# Altium footprint library J 接插件.PcbLib: 458 footprints (part 17 of 29)
Each footprint in its own frame and in the unit in brackets; x right, y up, seen from the top. Pads: shape width x height; smd on the part's side, far side on the other; paste and mask are expansions set on the pad; w line width, h text height; cw(c..) or ccw(c..) is an arc to the next point about the centre after c.
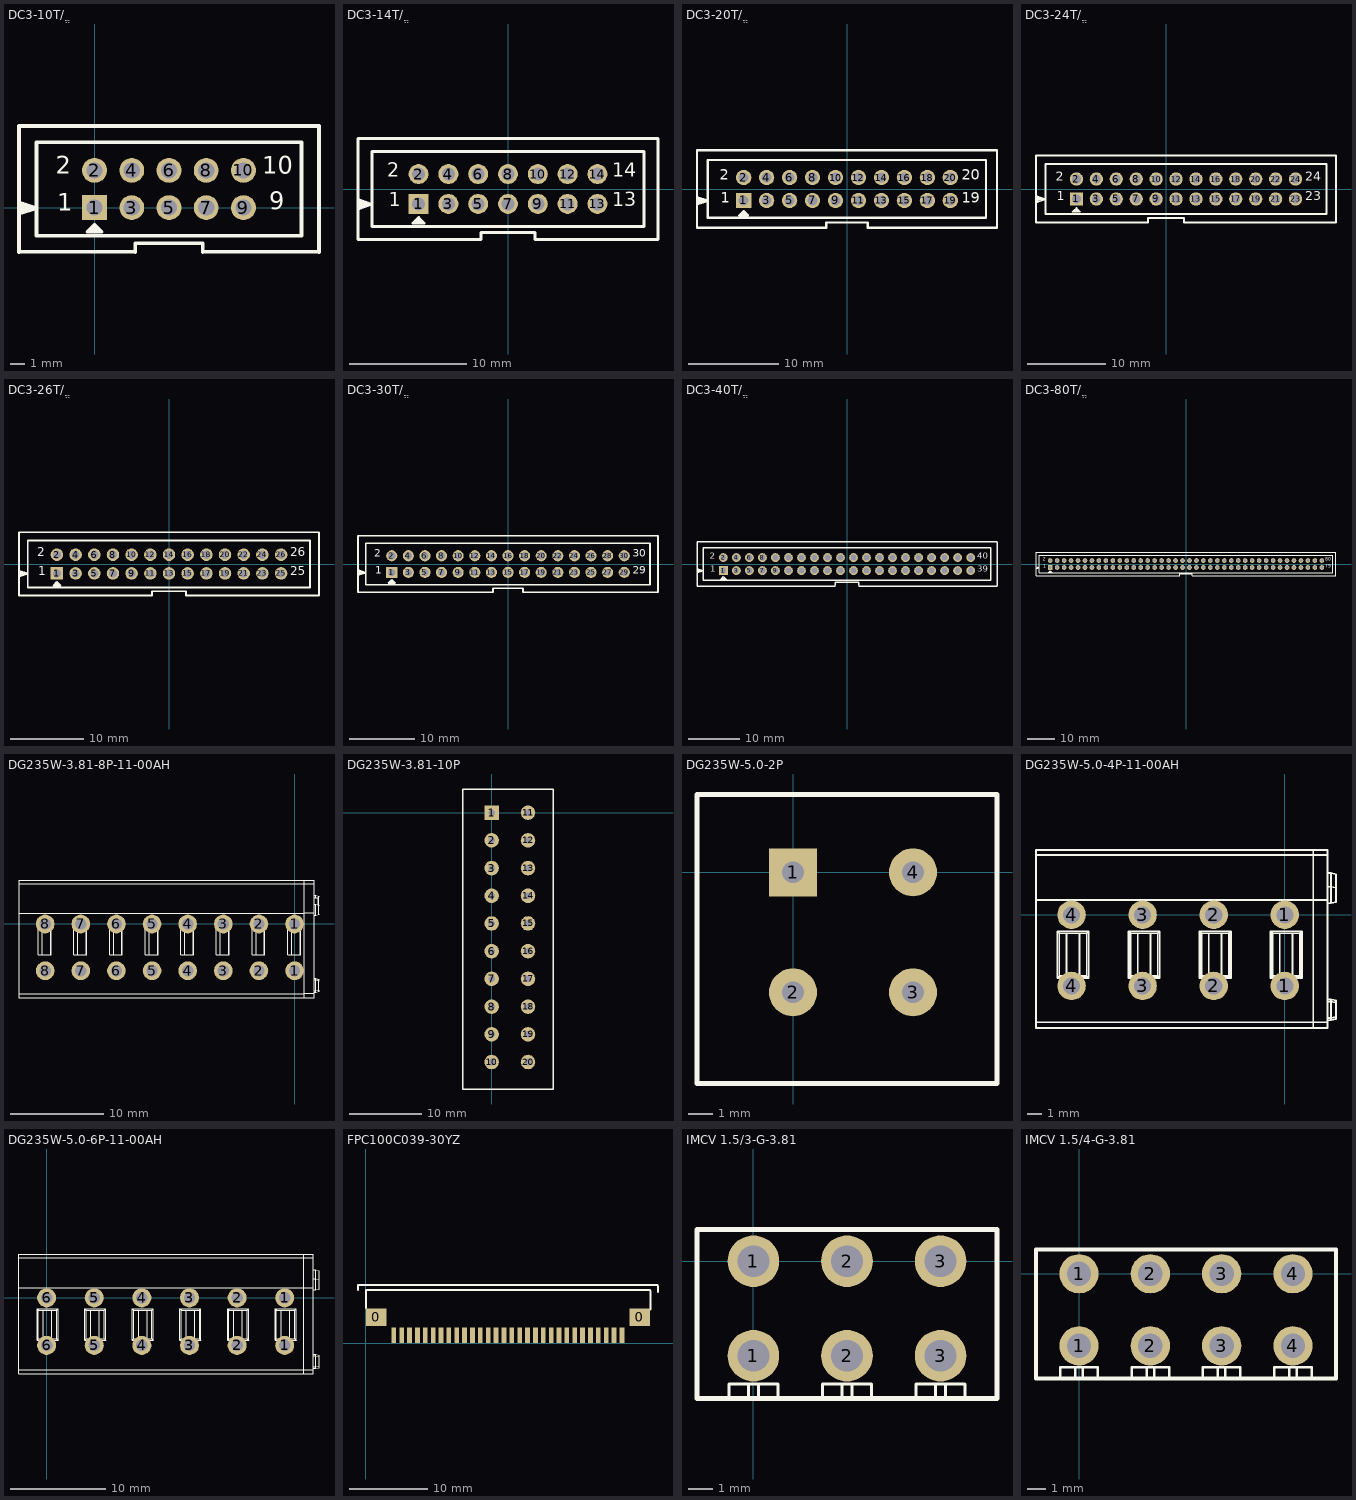
[diagram p16: the footprints below, top view; thin cyan lines are the x and y axes]

## DC3-10T/ֱ [mm] "双排排线无翼，10针"
height 10
pads (10):
  rect 1.7x1.7 hole 1.1: 1(0,0)
  round 1.7 hole 1.1: 2(0,2.54) 3(2.54,0) 4(2.54,2.54) 5(5.08,0) 6(5.08,2.54) 7(7.62,0) 8(7.62,2.54) 9(10.16,0) 10(10.16,2.54)
Top Overlay:
  lines w0.203: -0.381,-1.524 0.381,-1.524 ; -0.254,-1.397 0.254,-1.397 ; -0.508,-1.651 0.508,-1.651 0,-1.143 -0.508,-1.651
  lines w0.25: -5.16,-3.03 -5.16,5.57 15.32,5.57 15.32,-3.03 ; -5.16,-0.23 -4.56,-0.03 ; -5.16,-0.03 -3.96,-0.03 ; -5.16,0.17 -4.46,-0.03 ; -5.105,-3.023 2.769,-3.023 ; 2.78,-3.03 2.78,-2.43 7.38,-2.43 7.38,-3.03 ; 7.391,-3.023 15.265,-3.023 ; 14.097,-1.93 -3.96,-1.93 -3.96,4.47 14.097,4.47 ; 14.12,-1.93 14.12,4.47 ; -3.96,-0.03 -5.16,0.37 -5.16,-0.43 -3.96,-0.03
  text "10" at 11.43,1.905 h2.03
  text "9" at 11.938,-0.508 h2.03
  text "2" at -2.667,1.905 h2.03
  text "1" at -2.54,-0.635 h2.03

## DC3-14T/ֱ [mm] "双排排线无翼，14针"
height 10
pads (14):
  rect 1.7x1.7 hole 1.1: 1(-7.62,-1.27)
  round 1.7 hole 1.1: 2(-7.62,1.27) 3(-5.08,-1.27) 4(-5.08,1.27) 5(-2.54,-1.27) 6(-2.54,1.27) 7(0,-1.27) 8(0,1.27) 9(2.54,-1.27) 10(2.54,1.27) 11(5.08,-1.27) 12(5.08,1.27) 13(7.62,-1.27) 14(7.62,1.27)
Top Overlay:
  lines w0.203: -8.001,-2.794 -7.239,-2.794 ; -7.874,-2.667 -7.366,-2.667 ; -8.128,-2.921 -7.112,-2.921 -7.62,-2.413 -8.128,-2.921
  lines w0.25: -12.78,-4.3 -12.78,4.3 12.7,4.3 ; -12.78,-1.5 -12.18,-1.3 ; -12.78,-1.3 -11.58,-1.3 ; -12.78,-1.1 -12.08,-1.3 ; -12.725,-4.293 -2.286,-4.293 ; -2.3,-4.3 -2.3,-3.7 2.3,-3.7 2.3,-4.3 ; 2.286,-4.293 12.7,-4.293 ; 11.557,-3.2 -11.58,-3.2 -11.58,3.2 11.557,3.2 ; 11.58,-3.2 11.58,3.2 ; 12.78,-4.3 12.78,4.3 ; -11.58,-1.3 -12.78,-0.9 -12.78,-1.7 -11.58,-1.3
  text "13" at 8.89,-1.905 h2.03
  text "14" at 8.89,0.635 h2.03
  text "2" at -10.287,0.635 h2.03
  text "1" at -10.16,-1.905 h2.03

## DC3-20T/ֱ [mm] "双排排线无翼，20针"
height 10
pads (20):
  rect 1.7x1.7 hole 1.1: 1(-11.43,-1.27)
  round 1.7 hole 1.1: 2(-11.43,1.27) 3(-8.89,-1.27) 4(-8.89,1.27) 5(-6.35,-1.27) 6(-6.35,1.27) 7(-3.81,-1.27) 8(-3.81,1.27) 9(-1.27,-1.27) 10(-1.27,1.27) 11(1.27,-1.27) 12(1.27,1.27) 13(3.81,-1.27) 14(3.81,1.27) 15(6.35,-1.27) 16(6.35,1.27) 17(8.89,-1.27) 18(8.89,1.27) 19(11.43,-1.27) 20(11.43,1.27)
Top Overlay:
  lines w0.203: -11.811,-2.794 -11.049,-2.794 ; -11.684,-2.667 -11.176,-2.667 ; -11.938,-2.921 -11.43,-2.413 -10.922,-2.921 -11.938,-2.921
  lines w0.25: -16.59,-4.3 -16.59,4.3 16.51,4.3 ; -16.59,-1.5 -15.99,-1.3 ; -16.59,-1.3 -15.39,-1.3 ; -16.59,-1.1 -15.89,-1.3 ; -16.535,-4.293 -2.413,-4.293 ; -2.3,-4.3 -2.3,-3.7 2.3,-3.7 2.3,-4.3 ; 2.286,-4.293 16.51,-4.293 ; 16.59,-4.3 16.59,4.3 ; -15.39,-1.3 -16.59,-1.7 -16.59,-0.9 -15.39,-1.3 ; -15.39,-3.175 15.367,-3.175 15.367,3.2 -15.39,3.2 -15.39,-3.175
  text "19" at 12.7,-1.905 h2.03
  text "20" at 12.7,0.635 h2.03
  text "1" at -13.97,-1.905 h2.03
  text "2" at -14.097,0.635 h2.03

## DC3-24T/ֱ [mm] "双排排线无翼，24针"
height 10
pads (24):
  rect 1.7x1.7 hole 1.1: 1(-11.43,-1.27)
  round 1.7 hole 1.1: 2(-11.43,1.27) 3(-8.89,-1.27) 4(-8.89,1.27) 5(-6.35,-1.27) 6(-6.35,1.27) 7(-3.81,-1.27) 8(-3.81,1.27) 9(-1.27,-1.27) 10(-1.27,1.27) 11(1.27,-1.27) 12(1.27,1.27) 13(3.81,-1.27) 14(3.81,1.27) 15(6.35,-1.27) 16(6.35,1.27) 17(8.89,-1.27) 18(8.89,1.27) 19(11.43,-1.27) 20(11.43,1.27) 21(13.97,-1.27) 22(13.97,1.27) 23(16.51,-1.27) 24(16.51,1.27)
Top Overlay:
  lines w0.203: -11.811,-2.794 -11.049,-2.794 ; -11.684,-2.667 -11.176,-2.667 ; -11.938,-2.921 -10.922,-2.921 -11.43,-2.413 -11.938,-2.921
  lines w0.25: -16.59,-4.3 -16.59,4.3 21.59,4.3 ; -16.59,-1.5 -15.99,-1.3 ; -16.59,-1.3 -15.39,-1.3 ; -16.59,-1.1 -15.89,-1.3 ; -16.535,-4.293 -2.413,-4.293 ; -2.3,-4.3 -2.3,-3.7 2.3,-3.7 2.3,-4.3 ; 2.286,-4.293 21.59,-4.293 ; 21.67,-4.3 21.67,4.3 ; -15.39,-1.3 -16.59,-0.9 -16.59,-1.7 -15.39,-1.3 ; -15.39,-3.175 -15.39,3.2 20.447,3.2 20.447,-3.175 -15.39,-3.175
  text "2" at -14.097,0.635 h2.03
  text "1" at -13.97,-1.905 h2.03
  text "23" at 17.78,-1.905 h2.03
  text "24" at 17.78,0.635 h2.03

## DC3-26T/ֱ [mm] "双排排线无翼，26针"
height 10
pads (26):
  rect 1.7x1.7 hole 1.1: 1(-15.24,-1.27)
  round 1.7 hole 1.1: 2(-15.24,1.27) 3(-12.7,-1.27) 4(-12.7,1.27) 5(-10.16,-1.27) 6(-10.16,1.27) 7(-7.62,-1.27) 8(-7.62,1.27) 9(-5.08,-1.27) 10(-5.08,1.27) 11(-2.54,-1.27) 12(-2.54,1.27) 13(0,-1.27) 14(0,1.27) 15(2.54,-1.27) 16(2.54,1.27) 17(5.08,-1.27) 18(5.08,1.27) 19(7.62,-1.27) 20(7.62,1.27) 21(10.16,-1.27) 22(10.16,1.27) 23(12.7,-1.27) 24(12.7,1.27) 25(15.24,-1.27) 26(15.24,1.27)
Top Overlay:
  lines w0.203: -15.621,-2.794 -14.859,-2.794 ; -15.494,-2.667 -14.986,-2.667 ; -15.748,-2.921 -15.24,-2.413 -14.732,-2.921 -15.748,-2.921
  lines w0.25: -20.4,-4.3 -20.4,4.318 20.4,4.318 20.4,-4.3 ; -20.4,-1.5 -19.8,-1.3 ; -20.4,-1.3 -19.2,-1.3 ; -20.4,-1.1 -19.7,-1.3 ; -20.345,-4.293 -2.286,-4.293 ; -2.3,-4.3 -2.3,-3.7 2.3,-3.7 2.3,-4.3 ; 2.286,-4.293 20.32,-4.293 ; -19.2,-1.3 -20.4,-1.7 -20.4,-0.9 -19.2,-1.3 ; -19.2,-3.175 19.177,-3.175 19.177,3.2 -19.2,3.2 -19.2,-3.175
  text "1" at -17.78,-1.905 h2.03
  text "2" at -17.907,0.635 h2.03
  text "25" at 16.51,-1.905 h2.03
  text "26" at 16.51,0.635 h2.03

## DC3-30T/ֱ [mm] "双排排线无翼，30针"
height 10
pads (30):
  rect 1.7x1.7 hole 1.1: 1(-17.78,-1.27)
  round 1.7 hole 1.1: 2(-17.78,1.27) 3(-15.24,-1.27) 4(-15.24,1.27) 5(-12.7,-1.27) 6(-12.7,1.27) 7(-10.16,-1.27) 8(-10.16,1.27) 9(-7.62,-1.27) 10(-7.62,1.27) 11(-5.08,-1.27) 12(-5.08,1.27) 13(-2.54,-1.27) 14(-2.54,1.27) 15(0,-1.27) 16(0,1.27) 17(2.54,-1.27) 18(2.54,1.27) 19(5.08,-1.27) 20(5.08,1.27) 21(7.62,-1.27) 22(7.62,1.27) 23(10.16,-1.27) 24(10.16,1.27) 25(12.7,-1.27) 26(12.7,1.27) 27(15.24,-1.27) 28(15.24,1.27) 29(17.78,-1.27) 30(17.78,1.27)
Top Overlay:
  lines w0.203: -18.161,-2.794 -17.399,-2.794 ; -18.034,-2.667 -17.526,-2.667 ; -18.288,-2.921 -17.78,-2.413 -17.272,-2.921 -18.288,-2.921
  lines w0.25: -22.94,-4.3 -22.94,4.318 22.94,4.318 22.94,-4.3 ; -22.94,-1.5 -22.34,-1.3 ; -22.94,-1.3 -21.74,-1.3 ; -22.94,-1.1 -22.24,-1.3 ; -2.413,-4.293 -22.885,-4.293 -2.3,-4.293 ; -2.3,-4.3 -2.3,-3.7 2.3,-3.7 2.3,-4.3 ; 2.413,-4.293 22.86,-4.293 ; -21.74,-1.3 -22.94,-1.7 -22.94,-0.9 -21.74,-1.3 ; -21.74,-3.175 21.717,-3.175 21.717,3.2 -21.74,3.2 -21.74,-3.175
  text "30" at 19.05,0.635 h2.03
  text "29" at 19.05,-1.905 h2.03
  text "1" at -20.32,-1.905 h2.03
  text "2" at -20.447,0.635 h2.03

## DC3-40T/ֱ [mm] "双排排线无翼，40针"
height 10
pads (40):
  rect 1.7x1.7 hole 1.1: 1(-24.13,-1.27)
  round 1.7 hole 1.1: 2(-24.13,1.27) 3(-21.59,-1.27) 4(-21.59,1.27) 5(-19.05,-1.27) 6(-19.05,1.27) 7(-16.51,-1.27) 8(-16.51,1.27) 9(-13.97,-1.27) 10(-13.97,1.27) 11(-11.43,-1.27) 12(-11.43,1.27) 13(-8.89,-1.27) 14(-8.89,1.27) 15(-6.35,-1.27) 16(-6.35,1.27) 17(-3.81,-1.27) 18(-3.81,1.27) 19(-1.27,-1.27) 20(-1.27,1.27) 21(1.27,-1.27) 22(1.27,1.27) 23(3.81,-1.27) 24(3.81,1.27) 25(6.35,-1.27) 26(6.35,1.27) 27(8.89,-1.27) 28(8.89,1.27) 29(11.43,-1.27) 30(11.43,1.27) 31(13.97,-1.27) 32(13.97,1.27) 33(16.51,-1.27) 34(16.51,1.27) 35(19.05,-1.27) 36(19.05,1.27) 37(21.59,-1.27) 38(21.59,1.27) 39(24.13,-1.27) 40(24.13,1.27)
Top Overlay:
  lines w0.203: -24.511,-2.794 -23.749,-2.794 ; -24.384,-2.667 -23.876,-2.667 ; -24.638,-2.921 -24.13,-2.413 -23.622,-2.921 -24.638,-2.921
  lines w0.25: -29.29,-4.3 -29.29,4.318 29.21,4.318 ; -29.29,-1.5 -28.69,-1.3 ; -29.29,-1.3 -28.09,-1.3 ; -29.29,-1.1 -28.59,-1.3 ; -29.235,-4.293 -2.286,-4.293 ; -2.3,-4.173 -2.3,-3.573 2.3,-3.573 2.3,-4.173 ; 2.286,-4.293 29.21,-4.293 ; 29.29,-4.3 29.29,4.318 ; -28.09,-1.3 -29.29,-1.7 -29.29,-0.9 -28.09,-1.3 ; -28.09,-3.175 28.067,-3.175 28.067,3.2 -28.09,3.2 -28.09,-3.175
  text "1" at -26.67,-1.905 h2.03
  text "2" at -26.797,0.635 h2.03
  text "39" at 25.4,-1.905 h2.03
  text "40" at 25.4,0.635 h2.03

## DC3-80T/ֱ [mm] "双排排线无翼，80针"
height 10
pads (80):
  rect 1.7x1.7 hole 1.1: 1(-49.53,-1.27)
  round 1.7 hole 1.1: 2(-49.53,1.27) 3(-46.99,-1.27) 4(-46.99,1.27) 5(-44.45,-1.27) 6(-44.45,1.27) 7(-41.91,-1.27) 8(-41.91,1.27) 9(-39.37,-1.27) 10(-39.37,1.27) 11(-36.83,-1.27) 12(-36.83,1.27) 13(-34.29,-1.27) 14(-34.29,1.27) 15(-31.75,-1.27) 16(-31.75,1.27) 17(-29.21,-1.27) 18(-29.21,1.27) 19(-26.67,-1.27) 20(-26.67,1.27) 21(-24.13,-1.27) 22(-24.13,1.27) 23(-21.59,-1.27) 24(-21.59,1.27) 25(-19.05,-1.27) 26(-19.05,1.27) 27(-16.51,-1.27) 28(-16.51,1.27) 29(-13.97,-1.27) 30(-13.97,1.27) 31(-11.43,-1.27) 32(-11.43,1.27) 33(-8.89,-1.27) 34(-8.89,1.27) 34(3.81,1.27) 35(-6.35,-1.27) 36(-6.35,1.27) 37(-3.81,-1.27) 38(-3.81,1.27) 39(-1.27,-1.27) 40(-1.27,1.27) 41(1.27,-1.27) 42(1.27,1.27) 43(3.81,-1.27) 45(6.35,-1.27) 46(6.35,1.27) 47(8.89,-1.27) 48(8.89,1.27) 49(11.43,-1.27) 50(11.43,1.27) 51(13.97,-1.27) 52(13.97,1.27) 53(16.51,-1.27) 54(16.51,1.27) 55(19.05,-1.27) 56(19.05,1.27) 57(21.59,-1.27) 58(21.59,1.27) 59(24.13,-1.27) 60(24.13,1.27) 61(26.67,-1.27) 62(26.67,1.27) 63(29.21,-1.27) 64(29.21,1.27) 65(31.75,-1.27) 66(31.75,1.27) 67(34.29,-1.27) 68(34.29,1.27) 69(36.83,-1.27) 70(36.83,1.27) 71(39.37,-1.27) 72(39.37,1.27) 73(41.91,-1.27) 74(41.91,1.27) 75(44.45,-1.27) 76(44.45,1.27) 77(46.99,-1.27) 78(46.99,1.27) 79(49.53,-1.27) 80(49.53,1.27)
Top Overlay:
  lines w0.203: -49.911,-2.794 -49.149,-2.794 ; -49.784,-2.667 -49.276,-2.667 ; -50.038,-2.921 -49.022,-2.921 -49.53,-2.413 -50.038,-2.921
  lines w0.25: -54.69,-4.3 -54.69,4.318 54.69,4.318 54.69,-4.3 ; -54.69,-1.5 -54.09,-1.3 ; -54.69,-1.3 -53.49,-1.3 ; -54.69,-1.1 -53.99,-1.3 ; -54.635,-4.293 -2.286,-4.293 -2.286,-3.573 2.286,-3.573 2.286,-4.293 54.69,-4.293 ; -53.49,-1.3 -54.69,-0.9 -54.69,-1.7 -53.49,-1.3 ; -53.49,-3.175 -53.49,3.2 53.467,3.2 53.467,-3.175 -53.49,-3.175
  text "2" at -52.197,0.635 h2.03
  text "1" at -52.07,-1.905 h2.03
  text "79" at 50.8,-1.905 h2.03
  text "80" at 50.8,0.635 h2.03

## DG235W-3.81-8P-11-00AH [mm]
pads (16):
  round 2 hole 1.2: 1(0,-5) 1(0,0) 2(-3.81,-5) 2(-3.81,0) 3(-7.62,-5) 3(-7.62,0) 4(-11.43,-5) 4(-11.43,0) 5(-15.24,-5) 5(-15.24,0) 6(-19.05,-5) 6(-19.05,0) 7(-22.86,-5) 7(-22.86,0) 8(-26.67,-5) 8(-26.67,0)
Top Overlay:
  lines w0.127: -29.47,-7.88 -28.47,-7.88 -25.66,-7.88 -24.66,-7.88 -21.85,-7.88 -20.85,-7.88 -18.04,-7.88 -17.04,-7.88 -14.23,-7.88 -13.23,-7.88 -10.42,-7.88 -9.42,-7.88 -6.61,-7.88 -5.61,-7.88 -2.8,-7.88 -1.8,-7.88 1.01,-7.88 ; -29.464,-7.874 -29.464,4.67 2.11,4.67 2.11,4.32 ; -29.464,-7.48 1.01,-7.48 ; -29.464,1.17 1.01,1.17 1.01,1.18 2.11,1.18 ; -29.464,4.32 2.11,4.32 ; -26.98,-3.3 -26.98,-0.5 ; -26.08,-3.3 -26.08,-0.5 ; -23.17,-3.3 -23.17,-0.5 ; -22.27,-3.3 -22.27,-0.5 ; -19.36,-3.3 -19.36,-0.5 ; -18.46,-3.3 -18.46,-0.5 ; -15.55,-3.3 -15.55,-0.5 ; -14.65,-3.3 -14.65,-0.5 ; -11.74,-3.3 -11.74,-0.5 ; -10.84,-3.3 -10.84,-0.5 ; -7.93,-3.3 -7.93,-0.5 ; -7.03,-3.3 -7.03,-0.5 ; -4.12,-3.3 -4.12,-0.5 ; -3.22,-3.3 -3.22,-0.5 ; -0.31,-3.3 -0.31,-0.5 ; 0.59,-3.3 0.59,-0.5 ; 1.01,4.67 1.01,-1.29 1.01,-5.6 1.01,-7.88 ; 2.11,-7.3 2.26,-7.3 ; 2.11,-7.14 2.26,-7.14 ; 2.11,-5.82 2.26,-5.82 ; 2.11,0.94 2.26,0.94 ; 2.11,2.1 2.26,2.1 ; 2.11,2.81 2.51,2.81 2.51,2.043 ; 2.11,3.06 2.26,3.06 ; 2.26,2.81 2.26,3.06 ; 2.51,-6.037 2.51,-5.98 2.11,-5.98 2.26,-5.98 ; 2.61,-7.21 2.61,-7.092 ; 2.61,-7.06 2.61,-6.06 ; 2.61,-6.028 2.61,-5.91 ; 2.61,1.02 2.61,2.02 ; 2.61,2.052 2.61,2.97 ; 2.611,-7.21 2.26,-7.3 ; 2.611,-7.06 2.26,-7.14 ; 2.611,-6.06 2.26,-5.98 ; 2.611,-5.91 2.26,-5.82 ; 2.611,1.02 2.26,0.94 ; 2.611,2.02 2.26,2.1 ; 2.611,2.97 2.26,3.06 ; 1.01,-7.88 2.11,-7.88 2.11,-7.38 ; 1.01,-7.88 1.01,-7.48 ; 1.01,-7.48 1.01,-7.38 2.11,-7.38 ; 2.11,-7.38 2.11,1.18 ; 2.11,1.18 2.11,4.32 ; 2.26,-7.3 2.26,-7.14 ; 2.26,-7.14 2.26,-5.98 ; 2.26,-5.98 2.26,-5.82 ; 2.26,0.94 2.26,2.1 ; -27.41,-3.3 -27.41,-0.5 -26.03,-0.5 -26.03,-3.3 -27.41,-3.3 ; -23.6,-3.3 -23.6,-0.5 -22.22,-0.5 -22.22,-3.3 -23.6,-3.3 ; -19.79,-3.3 -19.79,-0.5 -18.41,-0.5 -18.41,-3.3 -19.79,-3.3 ; -15.98,-3.3 -15.98,-0.5 -14.6,-0.5 -14.6,-3.3 -15.98,-3.3 ; -12.17,-3.3 -12.17,-0.5 -10.79,-0.5 -10.79,-3.3 -12.17,-3.3 ; -8.36,-3.3 -8.36,-0.5 -6.98,-0.5 -6.98,-3.3 -8.36,-3.3 ; -4.55,-3.3 -4.55,-0.5 -3.17,-0.5 -3.17,-3.3 -4.55,-3.3 ; -0.74,-3.3 -0.74,-0.5 0.64,-0.5 0.64,-3.3 -0.74,-3.3

## DG235W-3.81-10P [mm] "直插，间距：3.81mm，PIN数：2x10"
pads (20):
  rect 2x2 hole 0.9: 1(0,0)
  round 2 hole 0.9: 2(0,-3.81) 3(0,-7.62) 4(0,-11.43) 5(0,-15.24) 6(0,-19.05) 7(0,-22.86) 8(0,-26.67) 9(0,-30.48) 10(0,-34.29) 11(5,0) 12(5,-3.81) 13(5,-7.62) 14(5,-11.43) 15(5,-15.24) 16(5,-19.05) 17(5,-22.86) 18(5,-26.67) 19(5,-30.48) 20(5,-34.29)
Top Overlay:
  lines w0.2: -4,-38 8.5,-38 8.5,3.25 -4,3.25 -4,-38

## DG235W-5.0-2P [mm] "直插，间距：5.0mm，PIN数：2x2"
pads (4):
  rect 2x2 hole 0.9: 1(0,0)
  round 2 hole 0.9: 2(0,-5) 3(5,-5) 4(5,0)
Top Overlay:
  lines w0.2: -4,-8.8 -4,3.25 8.5,3.25 8.5,-8.8 -4,-8.8

## DG235W-5.0-4P-11-00AH [mm]
pads (8):
  round 2 hole 1.2: 1(0,-5) 1(0,0) 2(-5,-5) 2(-5,0) 3(-10,-5) 3(-10,0) 4(-15,-5) 4(-15,0)
Top Overlay:
  drawing of 155 lines, arcs and shapes, not listed

## DG235W-5.0-6P-11-00AH [mm]
pads (12):
  round 2 hole 1.2: 1(25,-5) 1(25,0) 2(20,-5) 2(20,0) 3(15,-5) 3(15,0) 4(10,-5) 4(10,0) 5(5,-5) 5(5,0) 6(0,-5) 6(0,0)
Top Overlay:
  drawing of 218 lines, arcs and shapes, not listed

## FPC100C039-30YZ [mm]
pads (32):
  rect 2.6x2.2 smd: 0(1.3,3.3) 0(34.8,3.3)
  rect 0.6x2 smd: 1(3.55,1) 2(4.55,1) 3(5.55,1) 4(6.55,1) 5(7.55,1) 6(8.55,1) 7(9.55,1) 8(10.55,1) 9(11.55,1) 10(12.55,1) 11(13.55,1) 12(14.55,1) 13(15.55,1) 14(16.55,1) 15(17.55,1) 16(18.55,1) 17(19.55,1) 18(20.55,1) 19(21.55,1) 20(22.55,1) 21(23.55,1) 22(24.55,1) 23(25.55,1) 24(26.55,1) 25(27.55,1) 26(28.55,1) 27(29.55,1) 28(30.55,1) 29(31.55,1) 30(32.55,1)
Top Overlay:
  lines w0.254: -1,6.747 -1,7.4 37.1,7.4 ; 0,4.445 0,6.731 36.1,6.731 ; 36.195,4.252 36.195,6.604 ; 37.134,6.527 37.134,7.273

## IMCV 1.5/3-G-3.81 [mm] "菲尼克斯端子-3.81"
pads (6):
  round 2.1 hole 1.3: 1(0,-3.85) 1(0,0) 2(3.81,-3.85) 2(3.81,0) 3(7.62,-3.85) 3(7.62,0)
Top Overlay:
  lines w0.127: -1,-5.6 -1,-5 1,-5 1,-5.5 1,-5.6 ; -0.2,-5.6 -0.2,-5 ; 0.2,-5.5 0.2,-5 ; 2.81,-5.6 2.81,-5 4.81,-5 4.81,-5.5 4.81,-5.6 ; 3.61,-5.6 3.61,-5 ; 4.01,-5.5 4.01,-5 ; 6.62,-5.6 6.62,-5 8.62,-5 8.62,-5.5 8.62,-5.6 ; 7.42,-5.6 7.42,-5 ; 7.82,-5.5 7.82,-5
  lines w0.203: -2.3,-5.6 -2.3,1.3 9.92,1.3 9.92,-5.6 -2.3,-5.6

## IMCV 1.5/4-G-3.81 [mm] "菲尼克斯端子-3.81"
pads (8):
  round 2.1 hole 1.3: 1(0,-3.85) 1(0,0) 2(3.81,-3.85) 2(3.81,0) 3(7.62,-3.85) 3(7.62,0) 4(11.43,-3.85) 4(11.43,0)
Top Overlay:
  lines w0.127: -1,-5.6 -1,-5 1,-5 1,-5.5 1,-5.6 ; -0.2,-5.6 -0.2,-5 ; 0.2,-5.5 0.2,-5 ; 2.81,-5.6 2.81,-5 4.81,-5 4.81,-5.5 4.81,-5.6 ; 3.61,-5.6 3.61,-5 ; 4.01,-5.5 4.01,-5 ; 6.62,-5.6 6.62,-5 8.62,-5 8.62,-5.5 8.62,-5.6 ; 7.42,-5.6 7.42,-5 ; 7.82,-5.5 7.82,-5 ; 10.43,-5.6 10.43,-5 12.43,-5 12.43,-5.5 12.43,-5.6 ; 11.23,-5.6 11.23,-5 ; 11.63,-5.5 11.63,-5
  lines w0.203: -2.3,-5.6 13.73,-5.6 13.73,1.3 -2.3,1.3 -2.3,-5.6